# EAGLE library part TPS79533DCQ (library U96-SVM)
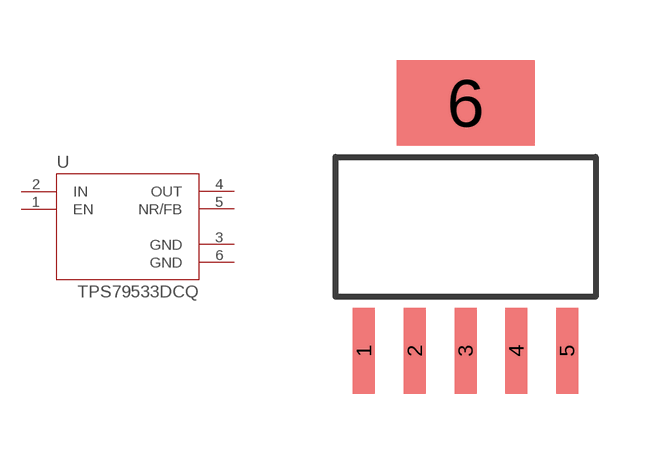
[diagram p11: symbol with the pads of TI-SOT223; footprint TI-SOT223]

Designator prefix U

## TPS79533DCQ  [TI-SOT223]
1  EN
2  IN
3  GND
4  OUT
5  NR/FB
6  GND

## Footprint TI-SOT223 (pad centres in mm)
smd 0.55 x 2.15: 1 -2.54,-3.1; 2 -1.27,-3.1; 3 0,-3.1; 4 1.27,-3.1; 5 2.54,-3.1
smd 3.45 x 2.15: 6 0,3.1